# Altium footprint library WR-SMB.PcbLib: 8 footprints
Each footprint in its own frame and in the unit in brackets; x right, y up, seen from the top. Pads: shape width x height; smd on the part's side, far side on the other; paste and mask are expansions set on the pad; w line width, h text height; cw(c..) or ccw(c..) is an arc to the next point about the centre after c.
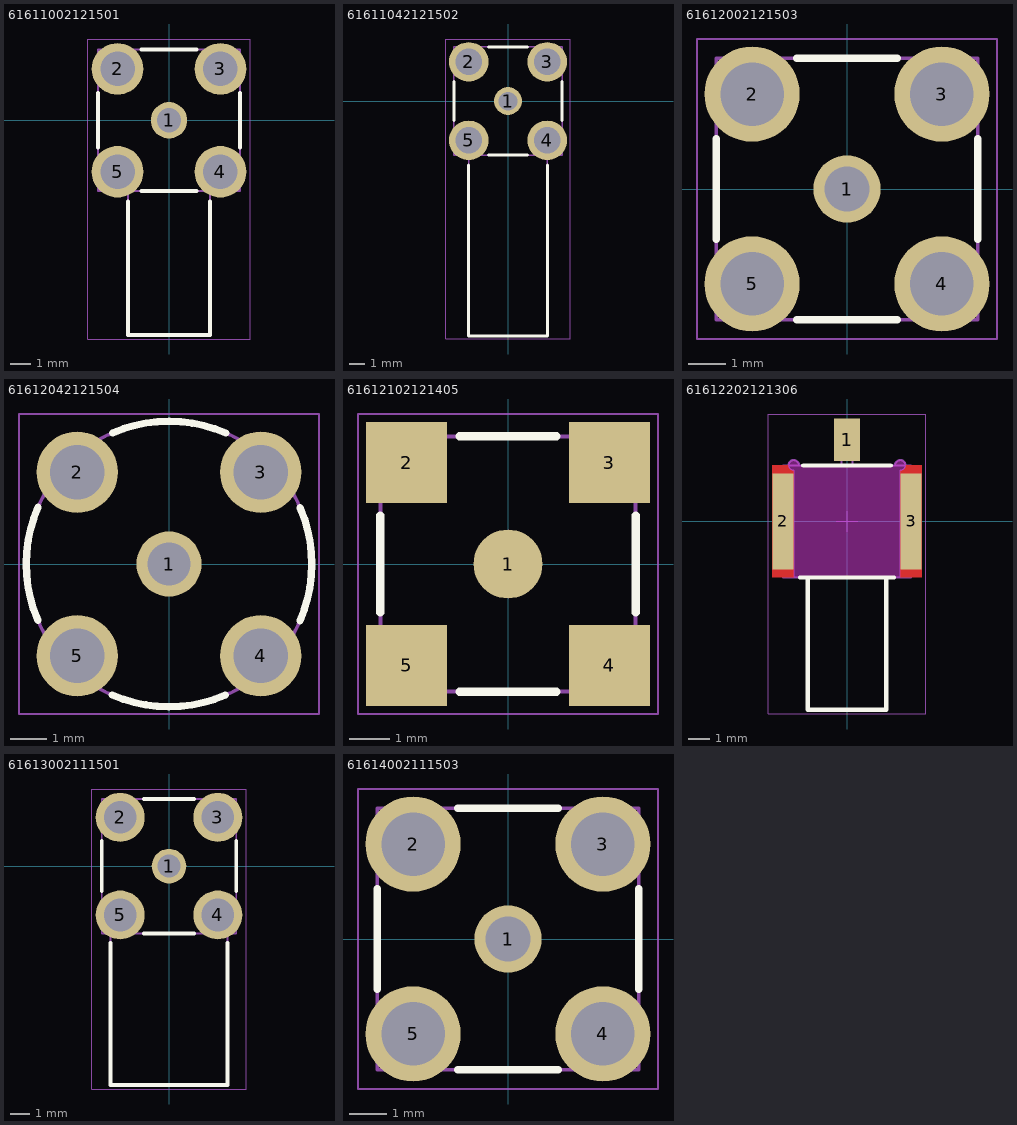
[diagram p0: the footprints below, top view; thin cyan lines are the x and y axes]

## 61611002121501 [mm] "PCB THT R/A MOUNT JACK"
height 9.06
pads (5):
  round 1.8 hole 1.2: 1(0,0)
  round 2.55 hole 1.7: 2(-2.54,2.54) 3(2.54,2.54) 4(2.54,-2.54) 5(-2.54,-2.54)
Top Overlay:
  lines w0.2: -3.5,-1.35 -3.5,1.35 ; -2.015,-4 -2.015,-10.6 2.015,-10.6 2.015,-4 ; -1.35,-3.5 1.35,-3.5 ; -1.35,3.5 1.35,3.5 ; 3.5,-1.35 3.5,1.35
Top Designator:
  text ".Designator" at -7.498,-0.5 h1.5
Top Component Outline:
  lines w0.1: -2.015,-3.5 -2.015,-10.6 2.015,-10.6 2.015,-3.5 ; -3.5,-3.5 -3.5,3.5 3.5,3.5 3.5,-3.5 -3.5,-3.5
Top 3D Body:
  lines w0.1: -2.015,-3.5 -2.015,-10.6 2.015,-10.6 2.015,-3.5 ; -3.5,-3.5 3.5,-3.5 3.5,3.5 -3.5,3.5 -3.5,-3.5
Top Courtyard:
  lines w0.05: -4.015,-10.8 -4.015,4.015 4.015,4.015 4.015,-10.8 -4.015,-10.8
3D body "61611002121501.stp": height 9.06, standoff -3.94, extent -3.5,-10.6 3.5,3.5

## 61611042121502 [mm] "SMB PCB R/A MOUNT BULKHEAD JACK"
height 7.5
pads (5):
  round 1.8 hole 1.2: 1(0,0)
  round 2.55 hole 1.7: 2(-2.54,2.54) 3(2.54,2.54) 4(2.54,-2.54) 5(-2.54,-2.54)
Top Overlay:
  lines w0.2: -3.5,-1.25 -3.5,1.25 ; -2.55,-4.15 -2.55,-15.2 2.55,-15.2 2.55,-4.15 ; -1.25,-3.5 1.25,-3.5 ; -1.25,3.5 1.25,3.5 ; 3.5,-1.25 3.5,1.25
Top Designator:
  text ".Designator" at -7.498,-0.5 h1.5
Top Component Outline:
  lines w0.1: -2.55,-3.5 -2.55,-15.2 2.55,-15.2 2.55,-3.5 ; -3.5,-3.5 3.5,-3.5 3.5,3.5 -3.5,3.5 -3.5,-3.5
Top 3D Body:
  lines w0.1: -2.55,-3.5 -2.55,-15.2 2.55,-15.2 2.55,-3.5 ; -3.5,-3.5 -3.5,3.5 3.5,3.5 3.5,-3.5 -3.5,-3.5
Top Courtyard:
  lines w0.05: -0.5,0 0.5,0 ; 0,-0.5 0,0.5 ; -4.015,-15.4 4.015,-15.4 4.015,4.015 -4.015,4.015 -4.015,-15.4
3D body "61611042121502.stp": height 7.95, standoff -3.44, extent -3.95,-15.2 3.95,3.5

## 61612002121503 [mm] "PCB THT STR. MOUNT JACK"
height 7.56
pads (5):
  round 1.8 hole 1.2: 1(0,0)
  round 2.55 hole 1.7: 2(-2.54,2.54) 3(2.54,2.54) 4(2.54,-2.54) 5(-2.54,-2.54)
Top Overlay:
  lines w0.2: -3.5,-1.35 -3.5,1.35 ; -1.35,-3.5 1.35,-3.5 ; -1.35,3.5 1.35,3.5 ; 3.5,-1.35 3.5,1.35
Top Designator:
  text ".Designator" at -7.498,-0.5 h1.5
Top Component Outline:
  lines w0.1: -3.5,-3.5 -3.5,3.5 3.5,3.5 3.5,-3.5 -3.5,-3.5
Top 3D Body:
  lines w0.1: -3.5,-3.5 3.5,-3.5 3.5,3.5 -3.5,3.5 -3.5,-3.5
Top Courtyard:
  lines w0.05: -0.5,0 0.5,0 ; 0,-0.5 0,0.5 ; -4.015,-4.015 -4.015,4.015 4.015,4.015 4.015,-4.015 -4.015,-4.015
3D body "61612002121503.stp": height 7.56, standoff -3.94, extent -3.5,-3.5 3.5,3.5

## 61612042121504 [mm] "PCB THT STR. MOUNT BULKHEAD JACK"
height 12.32
pads (5):
  round 1.8 hole 1.2: 1(0,0)
  round 2.25 hole 1.5: 2(-2.54,2.54) 3(2.54,2.54) 4(2.54,-2.54) 5(-2.54,-2.54)
Top Overlay:
  lines w0.2: -3.628,-1.562 cw(c0,0) -3.624,1.571 ; -1.571,-3.624 ccw(c0,0) 1.562,-3.628 ; -1.562,3.628 cw(c0,0) 1.571,3.624 ; 3.624,-1.571 ccw(c0,0) 3.628,1.562
Top Designator:
  text ".Designator" at -7.498,-0.5 h1.5
Top Component Outline:
  circle w0.1: c0,0 r3.95
Top 3D Body:
  circle w0.1: c0,0 r3.95
Top Courtyard:
  lines w0.05: -0.5,0 0.5,0 ; 0,-0.5 0,0.5 ; -4.15,-4.15 4.15,-4.15 4.15,4.15 -4.15,4.15 -4.15,-4.15
3D body "61612042121504.stp": height 12.32, standoff -3.94, extent -3.947,-3.95 3.947,3.95

## 61612102121405 [mm] "PCB SMT STR. JACK"
height 7.4
pads (5):
  round 1.7 smd: 1(0,0)
  rect 2x2 smd: 2(-2.5,2.5) 3(2.5,2.5) 4(2.5,-2.5) 5(-2.5,-2.5)
Top Overlay:
  lines w0.2: -3.15,-1.2 -3.15,1.2 ; -1.2,-3.15 1.2,-3.15 ; -1.2,3.15 1.2,3.15 ; 3.15,-1.2 3.15,1.2
Top Designator:
  text ".Designator" at -7.498,-0.5 h1.5
Top Component Outline:
  lines w0.1: -3.15,-3.15 3.15,-3.15 3.15,3.15 -3.15,3.15 -3.15,-3.15
Top 3D Body:
  lines w0.1: -3.15,-3.15 -3.15,3.15 3.15,3.15 3.15,-3.15 -3.15,-3.15
Top Courtyard:
  lines w0.05: -0.5,0 0.5,0 ; 0,-0.5 0,0.5 ; -3.7,-3.7 3.7,-3.7 3.7,3.7 -3.7,3.7 -3.7,-3.7
3D body "61612102121405.stp": height 7.4, standoff 0, extent -3.15,-3.15 3.15,3.15

## 61612202121306 [mm] "PCB SMT END LAUNCH JACK"
height 2.6
pads (3):
  rect 1.2x2 smd: 1(0,3.835)
  rect 1x4.5 smd: 2(-3,0) 3(3,0)
Top Layer:
  region: -3.5,-2.625 -2.5,-2.625 -2.5,2.375 -2.549,2.38 -2.639,2.417 -2.708,2.486 -2.745,2.576 -2.75,2.625 -3.5,2.625
  region: 3.5,-2.625 2.5,-2.625 2.5,2.375 2.549,2.38 2.639,2.417 2.708,2.486 2.745,2.576 2.75,2.625 3.5,2.625
Top Overlay:
  lines w0.2: -2.2,-2.625 2.2,-2.625 ; -2.05,2.625 2.05,2.625 ; -1.84,-2.625 -1.84,-8.825 1.84,-8.825 1.84,-2.625
Keep-Out Layer:
  board cut-out: -2.5,-2.625 2.5,-2.625 2.5,2.375 2.576,2.375 2.702,2.459 2.76,2.599 2.73,2.748 2.623,2.855 2.474,2.885 2.334,2.827 2.25,2.701 2.25,2.625 -2.25,2.625 -2.25,2.701 -2.334,2.827 -2.474,2.885 -2.623,2.855 -2.73,2.748 -2.76,2.599 -2.702,2.459 -2.576,2.375 -2.5,2.375
Notes:
  lines w0.1: -2.5,-2.625 2.5,-2.625 2.5,2.375 ccw(c2.5,2.625) 2.25,2.625 -2.25,2.625 ccw(c-2.5,2.625) -2.5,2.375 -2.5,-2.625
  text "Board Cutout Area" at -2.2,-0.1 h0.35
Top Designator:
  text ".Designator" at -7.498,-0.5 h1.5
Top Component Outline:
  lines w0.1: -1.84,-2.625 -1.84,-8.825 1.84,-8.825 1.84,-2.625 ; -0.25,2.625 -0.25,4.025 0.25,4.025 0.25,2.625 ; -3,-2.625 3,-2.625 3,2.625 -3,2.625 -3,-2.625
Top 3D Body:
  lines w0.1: -1.84,-2.625 -1.84,-8.825 1.84,-8.825 1.84,-2.625 ; -0.25,2.625 -0.25,4.025 0.25,4.025 0.25,2.625 ; -3,-2.625 -3,2.625 3,2.625 3,-2.625 -3,-2.625
Top Courtyard:
  lines w0.05: -0.5,0 0.5,0 ; 0,-0.5 0,0.5 ; -3.7,-9.025 -3.7,5.035 3.7,5.035 3.7,-9.025 -3.7,-9.025
3D body "61612202121306.stp": height 2.85, standoff -2.35, extent -2.999,-8.825 2.999,4.025

## 61613002111501 [mm] "PCB THT R/A MOUNT PLUG"
height 9.06
pads (5):
  round 1.8 hole 1.2: 1(0,0)
  round 2.55 hole 1.7: 2(-2.54,2.54) 3(2.54,2.54) 4(2.54,-2.54) 5(-2.54,-2.54)
Top Overlay:
  lines w0.2: -3.5,-1.3 -3.5,1.3 ; -3.05,-4 -3.05,-11.4 3.05,-11.4 3.05,-4 ; -1.3,-3.5 1.3,-3.5 ; -1.3,3.5 1.3,3.5 ; 3.5,-1.3 3.5,1.3
Top Designator:
  text ".Designator" at -7.498,-0.5 h1.5
Top Component Outline:
  lines w0.1: -3.05,-3.5 -3.05,-11.4 3.05,-11.4 3.05,-3.5 ; -3.5,-3.5 3.5,-3.5 3.5,3.5 -3.5,3.5 -3.5,-3.5
Top 3D Body:
  lines w0.1: -3.05,-3.5 -3.05,-11.4 3.05,-11.4 3.05,-3.5 ; -3.5,-3.5 -3.5,3.5 3.5,3.5 3.5,-3.5 -3.5,-3.5
Top Courtyard:
  lines w0.05: -0.5,0 0.5,0 ; 0,-0.5 0,0.5 ; -4.015,-11.6 4.015,-11.6 4.015,4.015 -4.015,4.015 -4.015,-11.6
3D body "61613002111501.stp": height 9.06, standoff -3.94, extent -3.5,-11.4 3.5,3.5

## 61614002111503 [mm] "PCB THT STR. MOUNT PLUG"
height 9.16
pads (5):
  round 1.8 hole 1.2: 1(0,0)
  round 2.55 hole 1.7: 2(-2.54,2.54) 3(2.54,2.54) 4(2.54,-2.54) 5(-2.54,-2.54)
Top Overlay:
  lines w0.2: -3.5,-1.35 -3.5,1.35 ; -1.35,-3.5 1.35,-3.5 ; -1.35,3.5 1.35,3.5 ; 3.5,-1.35 3.5,1.35
Top Designator:
  text ".Designator" at -7.498,-0.5 h1.5
Top Component Outline:
  lines w0.1: -3.5,-3.5 -3.5,3.5 3.5,3.5 3.5,-3.5 -3.5,-3.5
Top 3D Body:
  lines w0.1: -3.5,-3.5 3.5,-3.5 3.5,3.5 -3.5,3.5 -3.5,-3.5
Top Courtyard:
  lines w0.05: -0.5,0 0.5,0 ; 0,-0.5 0,0.5 ; -4.015,-4.015 -4.015,4.015 4.015,4.015 4.015,-4.015 -4.015,-4.015
3D body "61614002111503.stp": height 9.16, standoff -3.94, extent -3.5,-3.5 3.5,3.5